# EAGLE library part LM4667 (library Romibo)
Filterless High Efficiency 1.3W Switching Audio Amplifier (class-D)
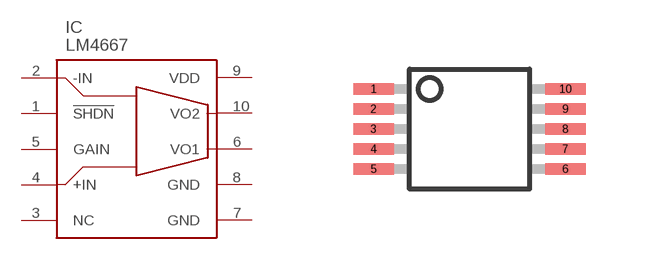
[diagram p5: symbol with the pads of MSOP-10; footprint MSOP-10]

Designator prefix IC

## LM4667MM  [MSOP-10]
1  !SHDN!  in
2  -IN  in
3  NC  nc
4  +IN  in
5  GAIN  in
6  VO1
7  GND  in
8  GND  in
9  VDD  in
10  VO2

## Footprint MSOP-10 (pad centres in mm)
smd 1.02 x 0.29: 1 -2.4,1; 2 -2.4,0.5; 3 -2.4,0; 4 -2.4,-0.5; 5 -2.4,-1; 6 2.4,-1; 7 2.4,-0.5; 8 2.4,0; 9 2.4,0.5; 10 2.4,1